# EAGLE library part LT3960 (library SparkFun-IC-Conversion)
I2C to CAN-Physical Transceiver
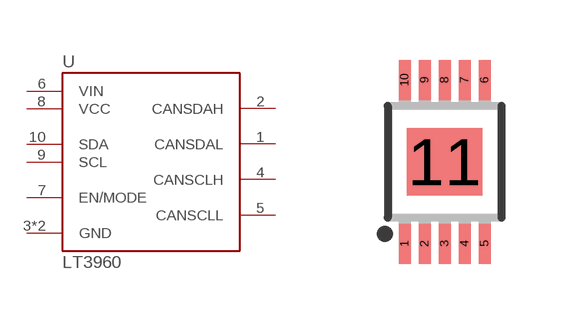
[diagram p4: symbol with the pads of MSOP10EP; footprint MSOP10EP]

Designator prefix U

## LT3960  [MSOP10EP]
1  CANSDAL
2  CANSDAH
3  GND  pwr
4  CANSCLH
5  CANSCLL
6  VIN  pwr
7  EN/MODE
8  VCC  pwr
9  SCL
10  SDA
11  GND  pwr

## Footprint MSOP10EP (pad centres in mm)
10 Lead Platic MSOP with exposed pad Source: http://www.linear.com .. LT3960
smd 0.3 x 1: 1 -1,-2.05; 2 -0.5,-2.05; 3 0,-2.05; 4 0.5,-2.05; 5 1,-2.05; 6 1,2.05; 7 0.5,2.05; 8 0,2.05; 9 -0.5,2.05; 10 -1,2.05
smd 1.88 x 1.68: 11 0,0